# EAGLE library part SEMTECH_SX1503I091TRT (library BlueHome)
Low Voltage GPIO 20-Pin QFN-UT T/R
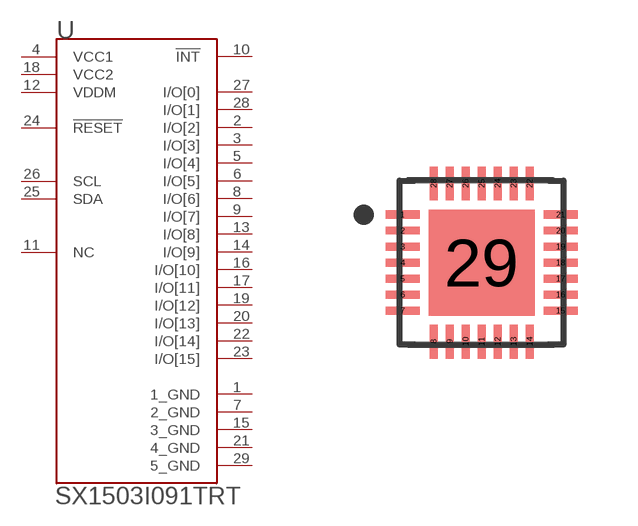
[diagram p9: symbol with the pads of SEMTECH_SX1503I091TRT_0; footprint SEMTECH_SX1503I091TRT_0]

Designator prefix U

## SEMTECH_SX1503I091TRTSEMTECH_SX1503I091TRT_0_0 (AMBIENT_TEMPERATURE_RANGE_HIGH: +85°C; AMBIENT_TEMPERATURE_RANGE_LOW: -40°C; CENTROID_NOT_SPECIFIED: No; DATASHEET: https://www.semtech.com/uploads/documents/sx150x.pdf; DEVICE_CLASS_L1: Integrated Circuits (ICs); DEVICE_CLASS_L2: Interface ICs; DEVICE_CLASS_L3: unset; DIGIKEY_DESCRIPTION: IC GPIO EXPANDER I2C 16CH 28-QFN; DIGIKEY_PART_NUMBER: SX1503I091CT-ND; HEIGHT: 0.6mm; INTERFACE: I2C; LEAD_FREE: yes; MAX_JUNCTION_TEMP: +125°C; MAX_SUPPLY_VOLTAGE: 5.5V; MF: Semtech; MFG_PACKAGE_IDENT: QFN-UT-28; MFG_PACKAGE_IDENT_DATE: 0; MFG_PACKAGE_IDENT_REV: 0; MIN_SUPPLY_VOLTAGE: 1.2V; MOUSER_PART_NUMBER: 947-SX1503I091TRT; MPN: SX1503I091TRT; NOMINAL_SUPPLY_CURRENT: 1uA; PACKAGE: QFN-UT-28; PREFIX: U; ROHS: yes; STANDOFF_HEIGHT: 0mm; TEMPERATURE_RANGE_HIGH: +125°C; TEMPERATURE_RANGE_LOW: -40°C; VERIFICATION_VERSION: 0.0.0.1)  [SEMTECH_SX1503I091TRT_0]
1  1_GND  pwr
2  I/O[2]
3  I/O[3]
4  VCC1  pwr
5  I/O[4]
6  I/O[5]
7  2_GND  pwr
8  I/O[6]
9  I/O[7]
10  !INT!  out
11  NC  pas
12  VDDM  pwr
13  I/O[8]
14  I/O[9]
15  3_GND  pwr
16  I/O[10]
17  I/O[11]
18  VCC2  pwr
19  I/O[12]
20  I/O[13]
21  4_GND  pwr
22  I/O[14]
23  I/O[15]
24  !RESET!
25  SDA
26  SCL  in
27  I/O[0]
28  I/O[1]
29  5_GND  pwr

## Footprint SEMTECH_SX1503I091TRT_0 (pad centres in mm)
Low Voltage GPIO 20-Pin QFN-UT T/R
smd 0.85 x 0.2: 1 -1.975,1.2; 2 -1.975,0.8; 3 -1.975,0.4; 4 -1.975,0; 5 -1.975,-0.4; 6 -1.975,-0.8; 7 -1.975,-1.2; 15 1.975,-1.2; 16 1.975,-0.8; 17 1.975,-0.4; 18 1.975,0; 19 1.975,0.4; 20 1.975,0.8; 21 1.975,1.2
smd 0.2 x 0.85: 8 -1.2,-1.975; 9 -0.8,-1.975; 10 -0.4,-1.975; 11 0,-1.975; 12 0.4,-1.975; 13 0.8,-1.975; 14 1.2,-1.975; 22 1.2,1.975; 23 0.8,1.975; 24 0.4,1.975; 25 0,1.975; 26 -0.4,1.975; 27 -0.8,1.975; 28 -1.2,1.975
smd 2.65 x 2.65: 29 0,0